# Altium footprint library 690367292076.PcbLib: 1 footprints
Each footprint in its own frame and in the unit in brackets; x right, y up, seen from the top. Pads: shape width x height; smd on the part's side, far side on the other; paste and mask are expansions set on the pad; w line width, h text height; cw(c..) or ccw(c..) is an arc to the next point about the centre after c.
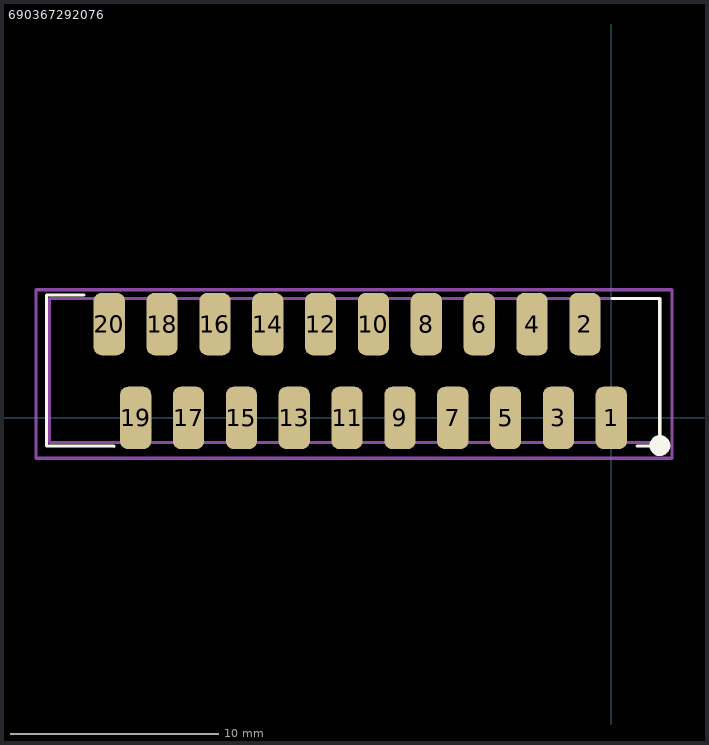
[diagram p0: the footprint, top view; thin cyan lines are the x and y axes]

## 690367292076 [mm]
pads (20):
  rrect50% 1.5x3 smd mask+0.07: 1(0,0) 2(-1.27,4.51) 3(-2.54,0) 4(-3.81,4.51) 5(-5.08,0) 6(-6.35,4.51) 7(-7.62,0) 8(-8.89,4.51) 9(-10.16,0) 10(-11.43,4.51) 11(-12.7,0) 12(-13.97,4.51) 13(-15.24,0) 14(-16.51,4.51) 15(-17.78,0) 16(-19.05,4.51) 17(-20.32,0) 18(-21.59,4.51) 19(-22.86,0) 20(-24.13,4.51)
Top Overlay:
  circle w0.5: c2.337,-1.332 r0.25
  lines w0.15: -25.346,5.907 -27.153,5.907 -27.153,-1.348 -23.905,-1.362 ; 0.027,5.737 2.327,5.737 2.327,-0.863 ; 1.227,-1.346 2.327,-1.346
Top Assembly:
  lines w0.15: -27,-1.18 -27,5.737 2.337,5.737 2.337,-1.18 -27,-1.18
Top Courtyard:
  lines w0.15: -27.661,-1.942 -27.661,6.161 2.927,6.161 2.927,-1.942 -27.661,-1.942
3D body "690367292076 (rev1).stp": height 6, standoff 0.25, extent -27.065,-1.195 2.935,5.805